# EAGLE library part MICROBUILDER_VREG_TO263-5 (library foxcar-control-board-v1)
TO263-5 Linear Voltage Regulators LD29300xx - 3A LDO (Vf: 0.4V@3A, 0.2V@1A) - Digikey: 3.3V - 497-3475-1-ND
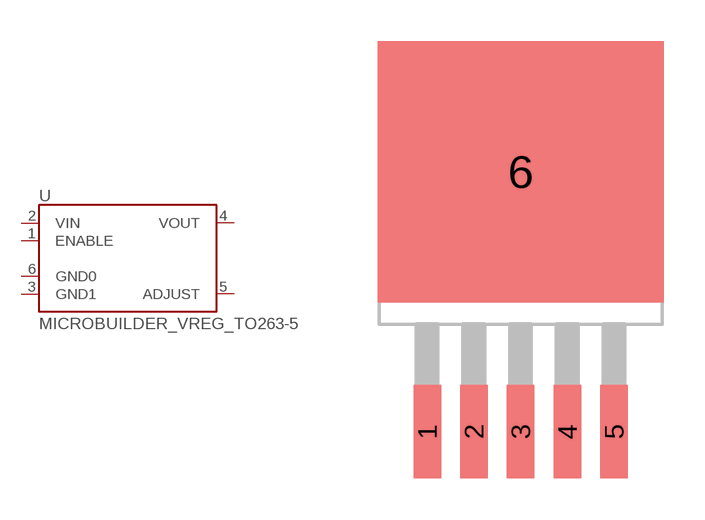
[diagram p8: symbol with the pads of MICROBUILDER_TO263-5; footprint MICROBUILDER_TO263-5]

Designator prefix U

## MICROBUILDER_VREG_TO263-5  [MICROBUILDER_TO263-5]
1  ENABLE
2  VIN
3  GND1
4  VOUT
5  ADJUST
6  GND0

## Footprint MICROBUILDER_TO263-5 (pad centres in mm)
Warning: Part outline is approximative
smd 1 x 3.4: 1 -3.4,-7.875; 2 -1.7,-7.875; 3 0,-7.875; 4 1.7,-7.875; 5 3.4,-7.875
smd 10.414 x 9.525: 6 0,1.595